# Altium schematic symbol library EN-C200-OPT.SchLib: 8 symbols
Pins are listed as number, name and electrical type; pins without a type are passive.

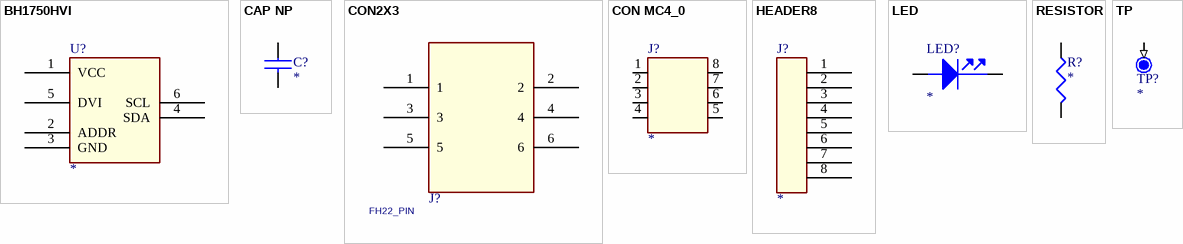
[diagram p0: symbols BH1750HVI to TP]

## BH1750HVI
designator U?
16位数字输出型环境光强度传感器，I2C BUS/-40℃～+85℃
footprint sop6-20-105
pins: 1 VCC, 2 ADDR, 3 GND, 4 SDA, 5 DVI, 6 SCL

## CAP NP
designator C?
pins: 1, 2

## CON2X3
designator J?, comment FH22_PIN
pins: 1, 2, 3, 4, 5, 6

## CON MC4_0
designator J?
pins: 1, 2, 3, 4, 5, 6, 7, 8

## HEADER8
designator J?
pins: 1, 2, 3, 4, 5, 6, 7, 8

## LED
designator LED?
pins: 1, 2

## RESISTOR
designator R?
pins: 1, 2

## TP
designator TP?
footprint TP
pins: 1 (in)